# Altium schematic symbol library FT232RL FTDI.SchLib: 1 symbol
Pins are listed as number, name and electrical type; pins without a type are passive.

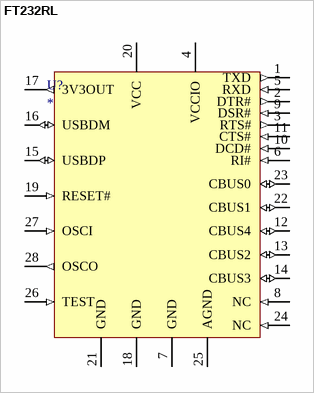
[diagram p0: symbol FT232RL]

## FT232RL
designator U?
FTDI USB Chip
pins: 1 TXD (out), 2 DTR# (out), 3 RTS# (out), 4 VCCIO, 5 RXD (in), 6 RI# (in), 7 GND, 8 NC (in), 9 DSR# (in), 10 DCD# (in), 11 CTS# (in), 12 CBUS4 (io), 13 CBUS2 (io), 14 CBUS3 (io), 15 USBDP (io), 16 USBDM (io), 17 3V3OUT (out), 18 GND, 19 RESET# (in), 20 VCC, 21 GND, 22 CBUS1 (io), 23 CBUS0 (io), 24 NC (in), 25 AGND, 26 TEST (in), 27 OSCI (in), 28 OSCO (out)